# EAGLE library part MCV14 (library con-phoenix-381)
Mini-Combicon 3.81mm vertical 14 pole MCV 1,5/14-G-3,81
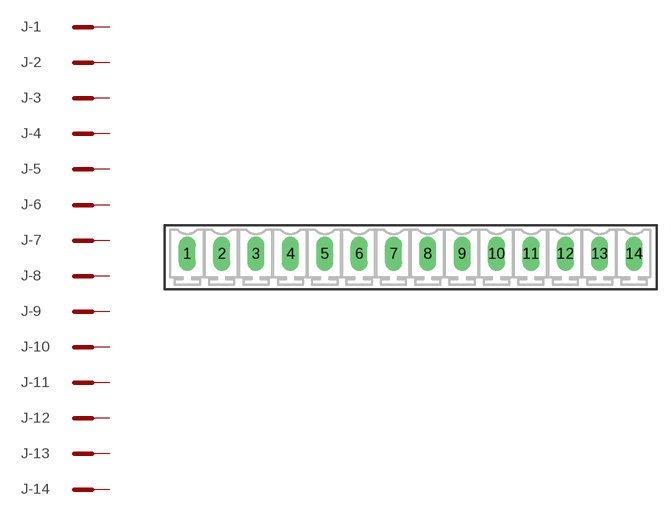
[diagram p47: symbol with the pads of MCV14; footprint MCV14]

Designator prefix J; gates -1=MCST -2=MCST -3=MCST -4=MCST -5=MCST -6=MCST -7=MCST -8=MCST -9=MCST -10=MCST -11=MCST -12=MCST -13=MCST -14=MCST

## MCV14  [MCV14]
1  -1:SK  pas
2  -2:SK  pas
3  -3:SK  pas
4  -4:SK  pas
5  -5:SK  pas
6  -6:SK  pas
7  -7:SK  pas
8  -8:SK  pas
9  -9:SK  pas
10  -10:SK  pas
11  -11:SK  pas
12  -12:SK  pas
13  -13:SK  pas
14  -14:SK  pas

## Footprint MCV14 (pad centres in mm)
drill 1.27 pad 1.905 long: 1 -24.765,0; 2 -20.955,0; 3 -17.145,0; 4 -13.335,0; 5 -9.525,0; 6 -5.715,0; 7 -1.905,0; 8 1.905,0; 9 5.715,0; 10 9.525,0; 11 13.335,0; 12 17.145,0; 13 20.955,0; 14 24.765,0